# Altium integrated library RC0603JR-07330RL.IntLib: 1 symbol
Pins are listed as number, name and electrical type; pins without a type are passive.

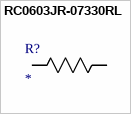
[diagram p0: symbol RC0603JR-07330RL]

## RC0603JR-07330RL
designator R?
No Description Available; Mfr_Name: Yageo; Supplier 1: Digikey; Supplier Part Number 1: 311-330GRCT-ND
footprint RC0603N_YAG-L
pins: 1, 2